# EAGLE library part OPA695IDR (library OPA695IDR)
High Speed Operational Amplifiers Ultra-Wideband Curre nt Feedback Source: Datasheet <https://www.ti.com/lit/ds/symlink/opa695.pdf?HQS=dis-dk-null-digikeymode-dsf-pf-null-wwe&ts=1639563683279&ref_url=https%3A%2F%2Fwww.ti.com%2Fgeneral%2Fdocs%2Fsuppproductinfo.tsp%3FdistId%3D10%26gotoUrl%3Dhttps%3A%2F%2Fwww.ti.com%>
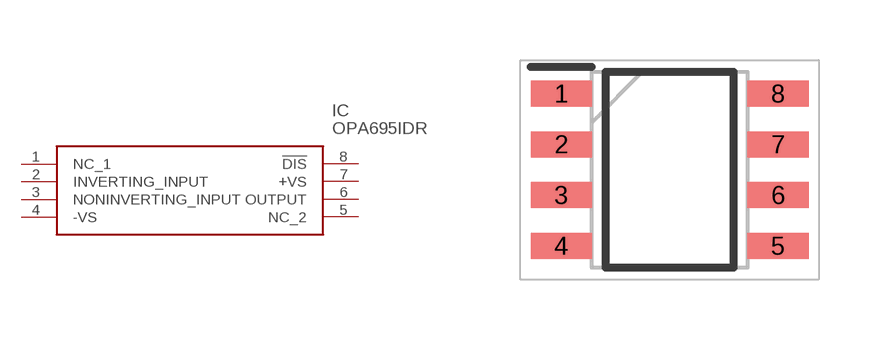
[diagram p0: symbol with the pads of SOIC127P600X175-8N; footprint SOIC127P600X175-8N]

Designator prefix IC

## OPA695IDR (Description: High Speed Operational Amplifiers Ultra-Wideband Curre nt Feedback; Height: 1.75mm; Manufacturer_Name: Texas Instruments; Manufacturer_Part_Number: OPA695IDR; Mouser_Part_Number: 595-OPA695IDR; Mouser_Price-Stock: https://www.mouser.co.uk/ProductDetail/Texas-Instruments/OPA695IDR?qs=wgAEGBTxy7loIslyoQGyeQ%3D%3D)  [SOIC127P600X175-8N]
1  NC_1
2  INVERTING_INPUT
3  NONINVERTING_INPUT
4  -VS
5  NC_2
6  OUTPUT
7  +VS
8  !DIS

## Footprint SOIC127P600X175-8N (pad centres in mm)
(D0008A_H=1.75
smd 1.528 x 0.65: 1 -2.711,1.905; 2 -2.711,0.635; 3 -2.711,-0.635; 4 -2.711,-1.905; 5 2.711,-1.905; 6 2.711,-0.635; 7 2.711,0.635; 8 2.711,1.905